# Altium schematic symbol library SCH-47569_A2_Library.SchLib: 96 symbols (part 3 of 3)
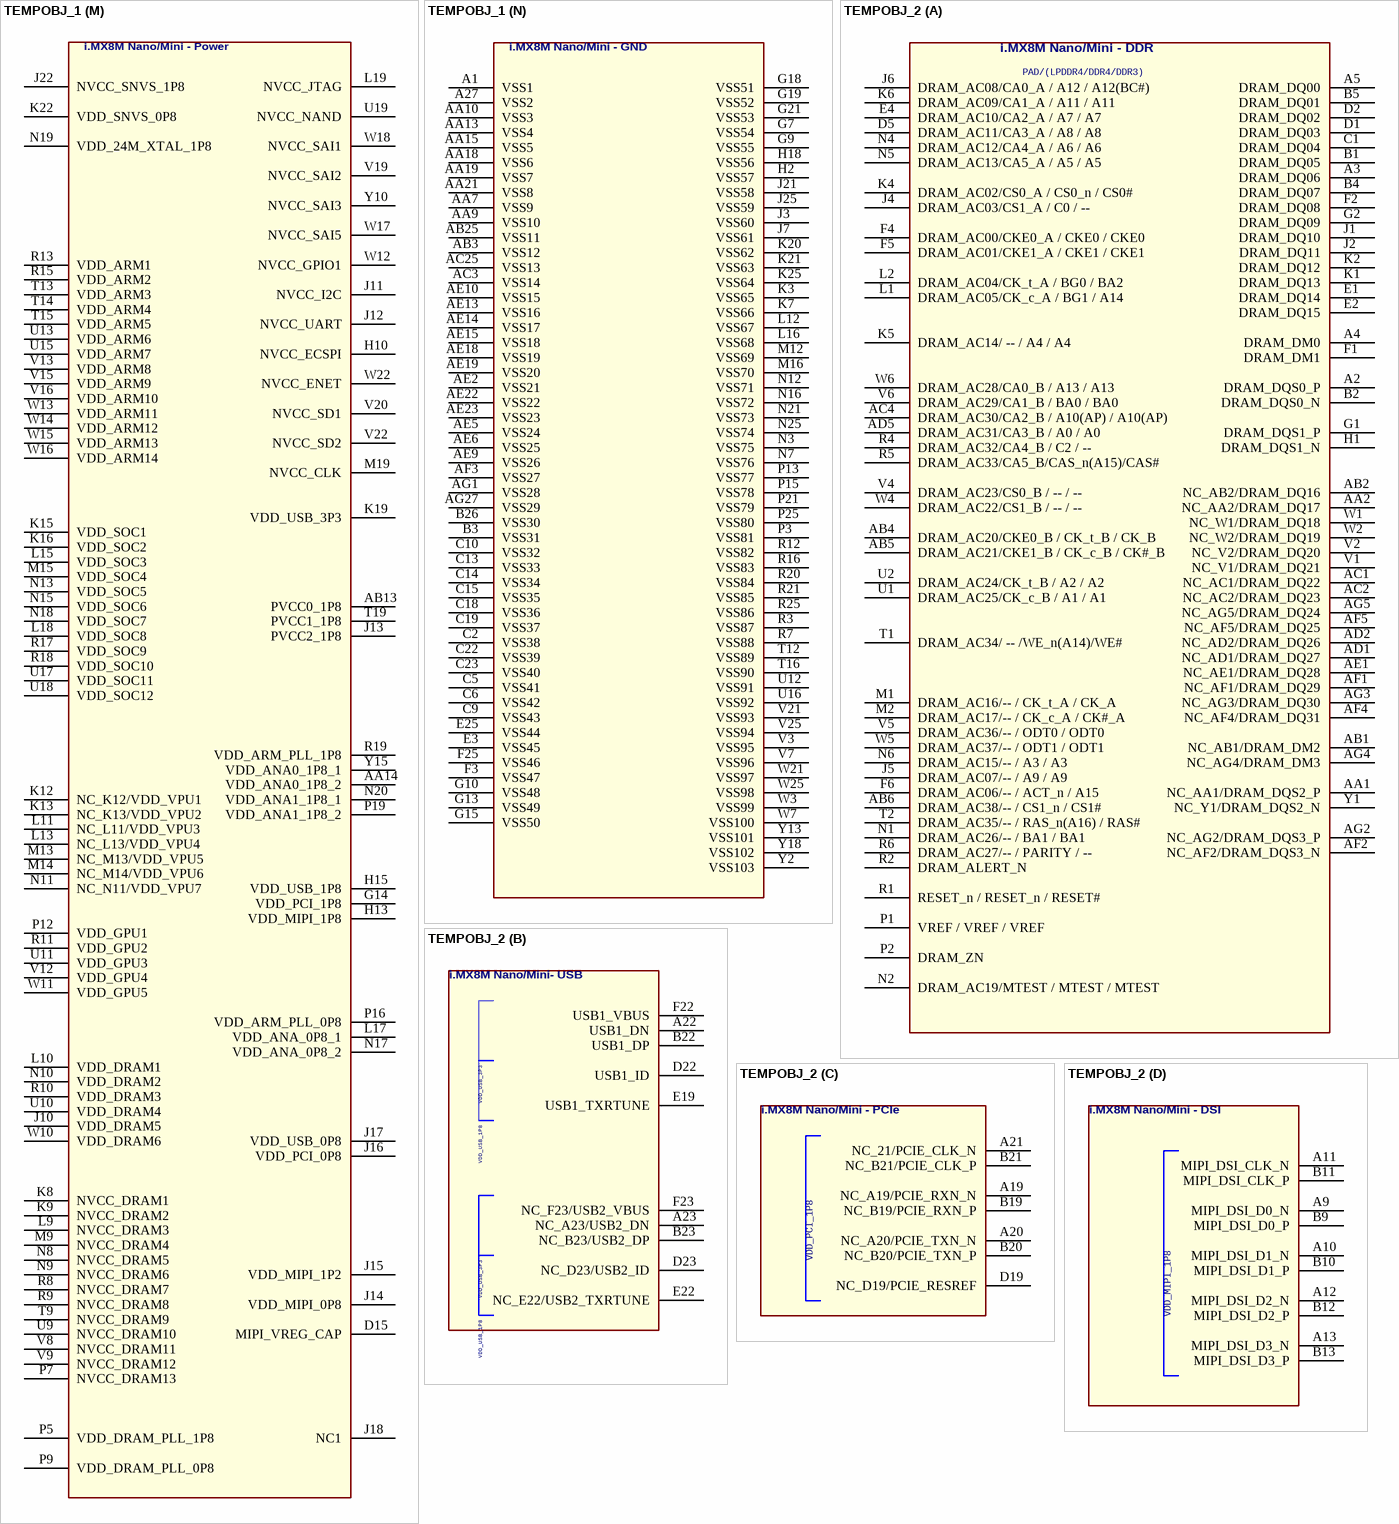
[diagram p32: symbols TEMPOBJ_1 to TEMPOBJ_2]

## TEMPOBJ_1
designator U?
SPLIT_INST: TRUE; CLASS: IC
footprint IMX845S-486P
part A pins: A2 DRAM_DQS0_P, A3 DRAM_DQ06, A4 DRAM_DM0, A5 DRAM_DQ00, AA1 NC_AA1/DRAM_DQS2_P, AA2 NC_AA2/DRAM_DQ17, AB1 NC_AB1/DRAM_DM2, AB2 NC_AB2/DRAM_DQ16, AB4 DRAM_AC20/CKE0_B / CK_t_B / CK_B, AB5 DRAM_AC21/CKE1_B / CK_c_B / CK#_B, AB6 DRAM_AC38/-- / CS1_n / CS1#, AC1 NC_AC1/DRAM_DQ22, AC2 NC_AC2/DRAM_DQ23, AC4 DRAM_AC30/CA2_B / A10(AP) / A10(AP), AD1 NC_AD1/DRAM_DQ27, AD2 NC_AD2/DRAM_DQ26, AD5 DRAM_AC31/CA3_B / A0 / A0, AE1 NC_AE1/DRAM_DQ28, AF1 NC_AF1/DRAM_DQ29, AF2 NC_AF2/DRAM_DQS3_N, AF4 NC_AF4/DRAM_DQ31, AF5 NC_AF5/DRAM_DQ25, AG2 NC_AG2/DRAM_DQS3_P, AG3 NC_AG3/DRAM_DQ30, AG4 NC_AG4/DRAM_DM3, AG5 NC_AG5/DRAM_DQ24, B1 DRAM_DQ05, B2 DRAM_DQS0_N, B4 DRAM_DQ07, B5 DRAM_DQ01, C1 DRAM_DQ04, D1 DRAM_DQ03, D2 DRAM_DQ02, D5 DRAM_AC11/CA3_A / A8 / A8, E1 DRAM_DQ14, E2 DRAM_DQ15, E4 DRAM_AC10/CA2_A / A7 / A7, F1 DRAM_DM1, F2 DRAM_DQ08, F4 DRAM_AC00/CKE0_A / CKE0 / CKE0, F5 DRAM_AC01/CKE1_A / CKE1 / CKE1, F6 DRAM_AC06/-- / ACT_n / A15, G1 DRAM_DQS1_P, G2 DRAM_DQ09, H1 DRAM_DQS1_N, J1 DRAM_DQ10, J2 DRAM_DQ11, J4 DRAM_AC03/CS1_A / C0 / --, J5 DRAM_AC07/-- / A9 / A9, J6 DRAM_AC08/CA0_A / A12 / A12(BC#), K1 DRAM_DQ13, K2 DRAM_DQ12, K4 DRAM_AC02/CS0_A / CS0_n / CS0#, K5 DRAM_AC14/ -- / A4 / A4, K6 DRAM_AC09/CA1_A / A11 / A11, L1 DRAM_AC05/CK_c_A / BG1 / A14, L2 DRAM_AC04/CK_t_A / BG0 / BA2, M1 DRAM_AC16/-- / CK_t_A / CK_A, M2 DRAM_AC17/-- / CK_c_A / CK#_A, N1 DRAM_AC26/-- / BA1 / BA1, N2 DRAM_AC19/MTEST / MTEST / MTEST, N4 DRAM_AC12/CA4_A / A6 / A6, N5 DRAM_AC13/CA5_A / A5 / A5, N6 DRAM_AC15/-- / A3 / A3, P1 VREF / VREF / VREF, P2 DRAM_ZN, R1 RESET_n / RESET_n / RESET#, R2 DRAM_ALERT_N, R4 DRAM_AC32/CA4_B / C2 / --, R5 DRAM_AC33/CA5_B/CAS_n(A15)/CAS#, R6 DRAM_AC27/-- / PARITY / --, T1 DRAM_AC34/ -- /WE_n(A14)/WE#, T2 DRAM_AC35/-- / RAS_n(A16) / RAS#, U1 DRAM_AC25/CK_c_B / A1 / A1, U2 DRAM_AC24/CK_t_B / A2 / A2, V1 NC_V1/DRAM_DQ21, V2 NC_V2/DRAM_DQ20, V4 DRAM_AC23/CS0_B / -- / --, V5 DRAM_AC36/-- / ODT0 / ODT0, V6 DRAM_AC29/CA1_B / BA0 / BA0, W1 NC_W1/DRAM_DQ18, W2 NC_W2/DRAM_DQ19, W4 DRAM_AC22/CS1_B / -- / --, W5 DRAM_AC37/-- / ODT1 / ODT1, W6 DRAM_AC28/CA0_B / A13 / A13, Y1 NC_Y1/DRAM_DQS2_N
part B pins: A22 USB1_DN, A23 NC_A23/USB2_DN, B22 USB1_DP, B23 NC_B23/USB2_DP, D22 USB1_ID, D23 NC_D23/USB2_ID, E19 USB1_TXRTUNE, E22 NC_E22/USB2_TXRTUNE, F22 USB1_VBUS, F23 NC_F23/USB2_VBUS (power)
part C pins: A19 NC_A19/PCIE_RXN_N, A20 NC_A20/PCIE_TXN_N, A21 NC_21/PCIE_CLK_N, B19 NC_B19/PCIE_RXN_P, B20 NC_B20/PCIE_TXN_P, B21 NC_B21/PCIE_CLK_P, D19 NC_D19/PCIE_RESREF
part D pins: A9 MIPI_DSI_D0_N, A10 MIPI_DSI_D1_N, A11 MIPI_DSI_CLK_N, A12 MIPI_DSI_D2_N, A13 MIPI_DSI_D3_N, B9 MIPI_DSI_D0_P, B10 MIPI_DSI_D1_P, B11 MIPI_DSI_CLK_P, B12 MIPI_DSI_D2_P, B13 MIPI_DSI_D3_P
part E pins: A14 MIPI_CSI_D0_N, A15 MIPI_CSI_D1_N, A16 MIPI_CSI_CLK_N, A17 MIPI_CSI_D2_N, A18 MIPI_CSI_D3_N, B14 MIPI_CSI_D0_P, B15 MIPI_CSI_D1_P, B16 MIPI_CSI_CLK_P, B17 MIPI_CSI_D2_P, B18 MIPI_CSI_D3_P
part F pins: D9 I2C2_SDA, D10 I2C2_SCL, D13 I2C4_SCL, D18 UART3_TXD, E9 I2C1_SCL, E10 I2C3_SCL, E13 I2C4_SDA, E14 UART1_RXD, E15 UART2_TXD, E18 UART3_RXD, F9 I2C1_SDA, F10 I2C3_SDA, F13 UART1_TXD, F15 UART2_RXD, F18 UART4_TXD, F19 UART4_RXD
part G pins: AB15 SAI5_RXFS, AB18 NC_AB18/SAI1_MCLK, AB19 NC_AB19/SAI1_TXFS, AB22 SAI2_RXC, AC6 SAI3_TXFS, AC13 SAI5_RXD3, AC14 SAI5_RXD1, AC15 SAI5_RXC, AC18 NC_AC18/SAI1_TXC, AC19 SAI2_RXFS, AC22 SAI2_TXD0, AC24 SAI2_RXD0, AD6 SAI3_MCLK, AD13 SAI5_RXD2, AD15 SAI5_MCLK, AD18 SAI5_RXD0, AD19 SAI2_MCLK, AD22 SAI2_TXC, AD23 SAI2_TXFS, AF6 SAI3_TXD, AF7 SAI3_RXD, AF8 SPDIF_EXT_CLK, AF9 SPDIF_TX, AF15 NC_AF15/SAI1_RXD1, AF16 NC_AF16/SAI1_RXC, AF17 NC_AF17/SAI1_RXD3, AF18 NC_AF18/SAI1_RXD5, AF19 NC_AF19/SAI1_RXD7, AF20 NC_AF20/SAI1_TXD1, AF21 NC_AF21/SAI1_TXD3, AF22 NC_AF22/SAI1_TXD5, AF23 NC_AF23/SAI1_TXD7, AG6 SAI3_TXC, AG7 SAI3_RXC, AG8 SAI3_RXFS, AG9 SPDIF_RX, AG15 NC_AG15/SAI1_RXD0, AG16 NC_AG16/SAI1_RXFS, AG17 NC_AG17/SAI1_RXD2, AG18 NC_AG18/SAI1_RXD4, AG19 NC_AG19/SAI1_RXD6, AG20 NC_AG20/SAI1_TXD0, AG21 NC_AG21/SAI1_TXD2, AG22 NC_AG22/SAI1_TXD4, AG23 NC_AG23/SAI1_TXD6
part H pins: K23 NAND_DATA02, K24 NAND_DATA01, K26 NAND_DATA06, K27 NAND_CLE, L26 NAND_DATA05, L27 NAND_CE3_B, M26 NAND_DATA04, M27 NAND_CE2_B, N22 NAND_ALE, N23 NAND_DATA03, N24 NAND_CE0_B, N26 NAND_DATA07, N27 NAND_RE_B, P23 NAND_DATA00, P26 NAND_READY_B, P27 NAND_CE1_B, R22 NAND_DQS, R26 NAND_WE_B, R27 NAND_WP_B
part I pins: AA26 SD2_CD_B, AA27 SD2_WP, AB23 SD2_DATA0, AB24 SD2_DATA1, AB26 SD2_RESET_B, R23 SD1_RESET_B, R24 SD1_STROBE, T26 SD1_DATA3, T27 SD1_DATA2, U26 SD1_DATA5, U27 SD1_DATA4, V23 SD2_DATA3, V24 SD2_DATA2, V26 SD1_CLK, V27 SD1_CMD, W23 SD2_CLK, W24 SD2_CMD, W26 SD1_DATA7, W27 SD1_DATA6, Y26 SD1_DATA1, Y27 SD1_DATA0
part J pins: AB27 ENET_MDIO, AC26 ENET_RD3, AC27 ENET_MDC, AD26 ENET_RD2, AD27 ENET_RD1, AE26 ENET_RXC, AE27 ENET_RD0, AF24 ENET_TX_CTL, AF25 ENET_TD3, AF26 ENET_TD1, AF27 ENET_RX_CTL, AG24 ENET_TXC, AG25 ENET_TD2, AG26 ENET_TD0
part K pins: A6 ECSPI2_SS0, A7 ECSPI1_MISO, A8 ECSPI2_MISO, AB9 GPIO1_IO15, AB10 GPIO1_IO12, AC9 GPIO1_IO14, AC10 GPIO1_IO11, AD9 GPIO1_IO13, AD10 GPIO1_IO10, AF10 GPIO1_IO09, AF11 GPIO1_IO07, AF12 GPIO1_IO05, AF13 GPIO1_IO03, AF14 GPIO1_IO01, AG10 GPIO1_IO08, AG11 GPIO1_IO06, AG12 GPIO1_IO04, AG13 GPIO1_IO02, AG14 GPIO1_IO00, B6 ECSPI1_SS0, B7 ECSPI1_MOSI, B8 ECSPI2_MOSI, D6 ECSPI1_SCLK, E6 ECSPI2_SCLK
part L pins: A24 PMIC_ON_REQ, A25 ONOFF, A26 RTC_XTALI, B24 POR_B, B25 RTC_XTALO, B27 24M_XTALI, C26 24M_XTALO, C27 BOOT_MODE2/JTAG_TRST_B, D26 BOOT_MODE3/TEST_MODE, D27 JTAG_MOD, E24 PMIC_STBY_REQ, E26 JTAG_TDO, E27 JTAG_TDI, F24 RTC_RESET_B, F26 JTAG_TCK, F27 JTAG_TMS, G26 BOOT_MODE0, G27 BOOT_MODE1, H26 CLKOUT1, H27 CLKIN1, J23 TSENSOR_TEST_OUT, J24 TSENSOR_RES_EXT, J26 CLKOUT2, J27 CLKIN2
part M pins: AA14 VDD_ANA0_1P8_2 (power), AB13 PVCC0_1P8 (power), D15 MIPI_VREG_CAP, G14 VDD_PCI_1P8 (power), H10 NVCC_ECSPI (power), H13 VDD_MIPI_1P8 (power), H15 VDD_USB_1P8 (power), J10 VDD_DRAM5 (power), J11 NVCC_I2C (power), J12 NVCC_UART (power), J13 PVCC2_1P8 (power), J14 VDD_MIPI_0P8 (power), J15 VDD_MIPI_1P2 (power), J16 VDD_PCI_0P8 (power), J17 VDD_USB_0P8 (power), J18 NC1 (power), J22 NVCC_SNVS_1P8 (power), K8 NVCC_DRAM1 (power), K9 NVCC_DRAM2 (power), K12 NC_K12/VDD_VPU1 (power), K13 NC_K13/VDD_VPU2 (power), K15 VDD_SOC1 (power), K16 VDD_SOC2 (power), K19 VDD_USB_3P3 (power), K22 VDD_SNVS_0P8 (power), L9 NVCC_DRAM3 (power), L10 VDD_DRAM1 (power), L11 NC_L11/VDD_VPU3 (power), L13 NC_L13/VDD_VPU4 (power), L15 VDD_SOC3 (power), L17 VDD_ANA_0P8_1 (power), L18 VDD_SOC8 (power), L19 NVCC_JTAG (power), M9 NVCC_DRAM4 (power), M13 NC_M13/VDD_VPU5 (power), M14 NC_M14/VDD_VPU6 (power), M15 VDD_SOC4 (power), M19 NVCC_CLK (power), N8 NVCC_DRAM5 (power), N9 NVCC_DRAM6 (power), N10 VDD_DRAM2 (power), N11 NC_N11/VDD_VPU7 (power), N13 VDD_SOC5 (power), N15 VDD_SOC6 (power), N17 VDD_ANA_0P8_2 (power), N18 VDD_SOC7 (power), N19 VDD_24M_XTAL_1P8 (power), N20 VDD_ANA1_1P8_1 (power), P5 VDD_DRAM_PLL_1P8 (power), P7 NVCC_DRAM13, P9 VDD_DRAM_PLL_0P8 (power), P12 VDD_GPU1 (power), P16 VDD_ARM_PLL_0P8 (power), P19 VDD_ANA1_1P8_2 (power), R8 NVCC_DRAM7 (power), R9 NVCC_DRAM8 (power), R10 VDD_DRAM3 (power), R11 VDD_GPU2 (power), R13 VDD_ARM1 (power), R15 VDD_ARM2 (power), R17 VDD_SOC9 (power), R18 VDD_SOC10 (power), R19 VDD_ARM_PLL_1P8 (power), T9 NVCC_DRAM9 (power), T13 VDD_ARM3 (power), T14 VDD_ARM4 (power), T15 VDD_ARM5 (power), T19 PVCC1_1P8 (power), U9 NVCC_DRAM10 (power), U10 VDD_DRAM4 (power), U11 VDD_GPU3 (power), U13 VDD_ARM6 (power), U15 VDD_ARM7 (power), U17 VDD_SOC11 (power), U18 VDD_SOC12 (power), U19 NVCC_NAND (power), V8 NVCC_DRAM11 (power), V9 NVCC_DRAM12 (power), V12 VDD_GPU4 (power), V13 VDD_ARM8 (power), V15 VDD_ARM9 (power), V16 VDD_ARM10 (power), V19 NVCC_SAI2 (power), V20 NVCC_SD1 (power), V22 NVCC_SD2 (power), W10 VDD_DRAM6 (power), W11 VDD_GPU5 (power), W12 NVCC_GPIO1 (power), W13 VDD_ARM11 (power), W14 VDD_ARM12 (power), W15 VDD_ARM13 (power), W16 VDD_ARM14 (power), W17 NVCC_SAI5 (power), W18 NVCC_SAI1 (power), W22 NVCC_ENET (power), Y10 NVCC_SAI3 (power), Y15 VDD_ANA0_1P8_1 (power)
part N pins: A1 VSS1 (power), A27 VSS2 (power), AA7 VSS9 (power), AA9 VSS10 (power), AA10 VSS3 (power), AA13 VSS4 (power), AA15 VSS5 (power), AA18 VSS6 (power), AA19 VSS7 (power), AA21 VSS8 (power), AB3 VSS12 (power), AB25 VSS11 (power), AC3 VSS14 (power), AC25 VSS13 (power), AE2 VSS21 (power), AE5 VSS24 (power), AE6 VSS25 (power), AE9 VSS26 (power), AE10 VSS15 (power), AE13 VSS16 (power), AE14 VSS17 (power), AE15 VSS18 (power), AE18 VSS19 (power), AE19 VSS20 (power), AE22 VSS22 (power), AE23 VSS23 (power), AF3 VSS27 (power), AG1 VSS28 (power), AG27 VSS29 (power), B3 VSS31 (power), B26 VSS30 (power), C2 VSS38 (power), C5 VSS41 (power), C6 VSS42 (power), C9 VSS43 (power), C10 VSS32 (power), C13 VSS33 (power), C14 VSS34 (power), C15 VSS35 (power), C18 VSS36 (power), C19 VSS37 (power), C22 VSS39 (power), C23 VSS40 (power), E3 VSS45 (power), E25 VSS44 (power), F3 VSS47 (power), F25 VSS46 (power), G7 VSS54 (power), G9 VSS55 (power), G10 VSS48 (power), G13 VSS49 (power), G15 VSS50 (power), G18 VSS51 (power), G19 VSS52 (power), G21 VSS53 (power), H2 VSS57 (power), H18 VSS56 (power), J3 VSS60 (power), J7 VSS61 (power), J21 VSS58 (power), J25 VSS59 (power), K3 VSS65 (power), K7 VSS66 (power), K20 VSS62 (power), K21 VSS63 (power), K25 VSS64 (power), L12 VSS67 (power), L16 VSS68 (power), M12 VSS69 (power), M16 VSS70 (power), N3 VSS75 (power), N7 VSS76 (power), N12 VSS71 (power), N16 VSS72 (power), N21 VSS73 (power), N25 VSS74 (power), P3 VSS81 (power), P13 VSS77 (power), P15 VSS78 (power), P21 VSS79 (power), P25 VSS80 (power), R3 VSS87 (power), R7 VSS88 (power), R12 VSS82 (power), R16 VSS83 (power), R20 VSS84 (power), R21 VSS85 (power), R25 VSS86 (power), T12 VSS89 (power), T16 VSS90 (power), U12 VSS91 (power), U16 VSS92 (power), V3 VSS95 (power), V7 VSS96 (power), V21 VSS93 (power), V25 VSS94 (power), W3 VSS99 (power), W7 VSS100 (power), W21 VSS97 (power), W25 VSS98 (power), Y2 VSS103 (power), Y13 VSS101 (power), Y18 VSS102 (power)
part A text: i.MX8M Nano/Mini - DDR; PAD/(LPDDR4/DDR4/DDR3)
part B text: i.MX8M Nano/Mini- USB
part C text: i.MX8M Nano/Mini - PCIe
part D text: i.MX8M Nano/Mini - DSI
part E text: i.MX8M Nano/Mini - CSI
part F text: i.MX8M Nano/Mini - UART&I2C
part G text: i.MX8M Nano/Mini - SAI
part H text: i.MX8M Nano/Mini - NAND
part I text: i.MX8M Nano/Mini - SDHC
part J text: i.MX8M Nano/Mini - eNET
part K text: i.MX8M Nano/Mini - SPI&GPIO
part L text: i.MX8M Nano/Mini - MISC; VDD_ANA1_1P8
part M text: i.MX8M Nano/Mini - Power
part N text: i.MX8M Nano/Mini - GND

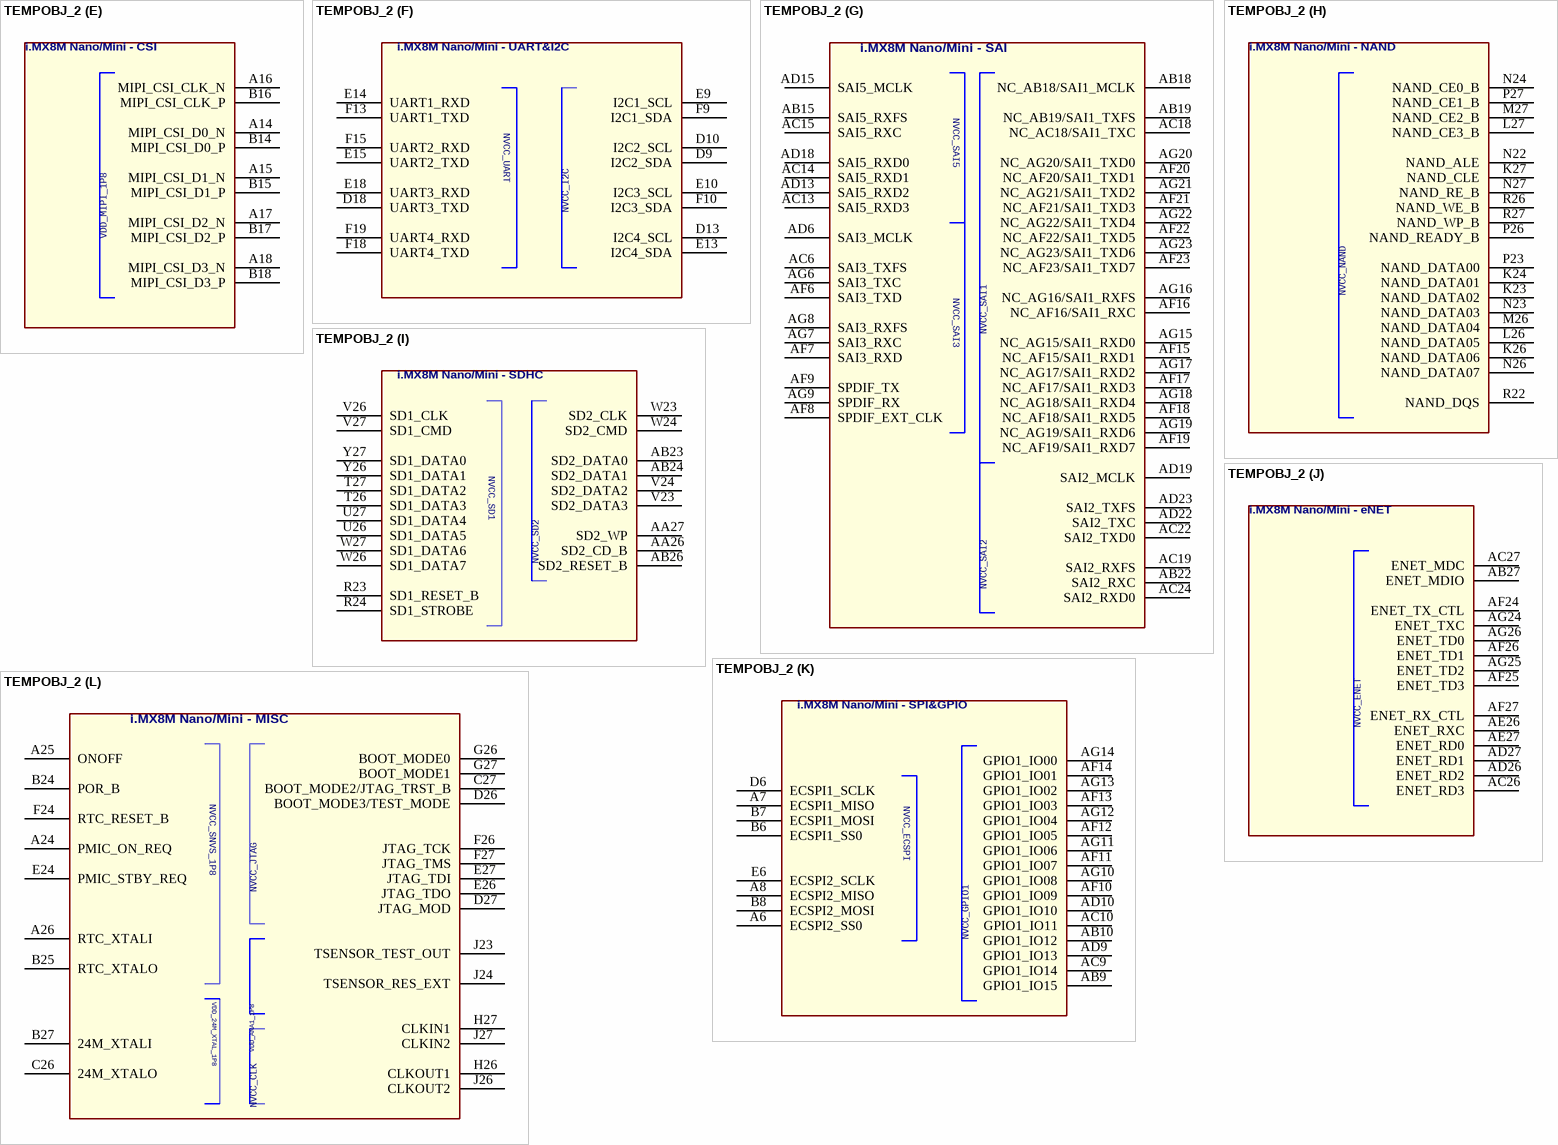
[diagram p26: symbol TEMPOBJ_2]

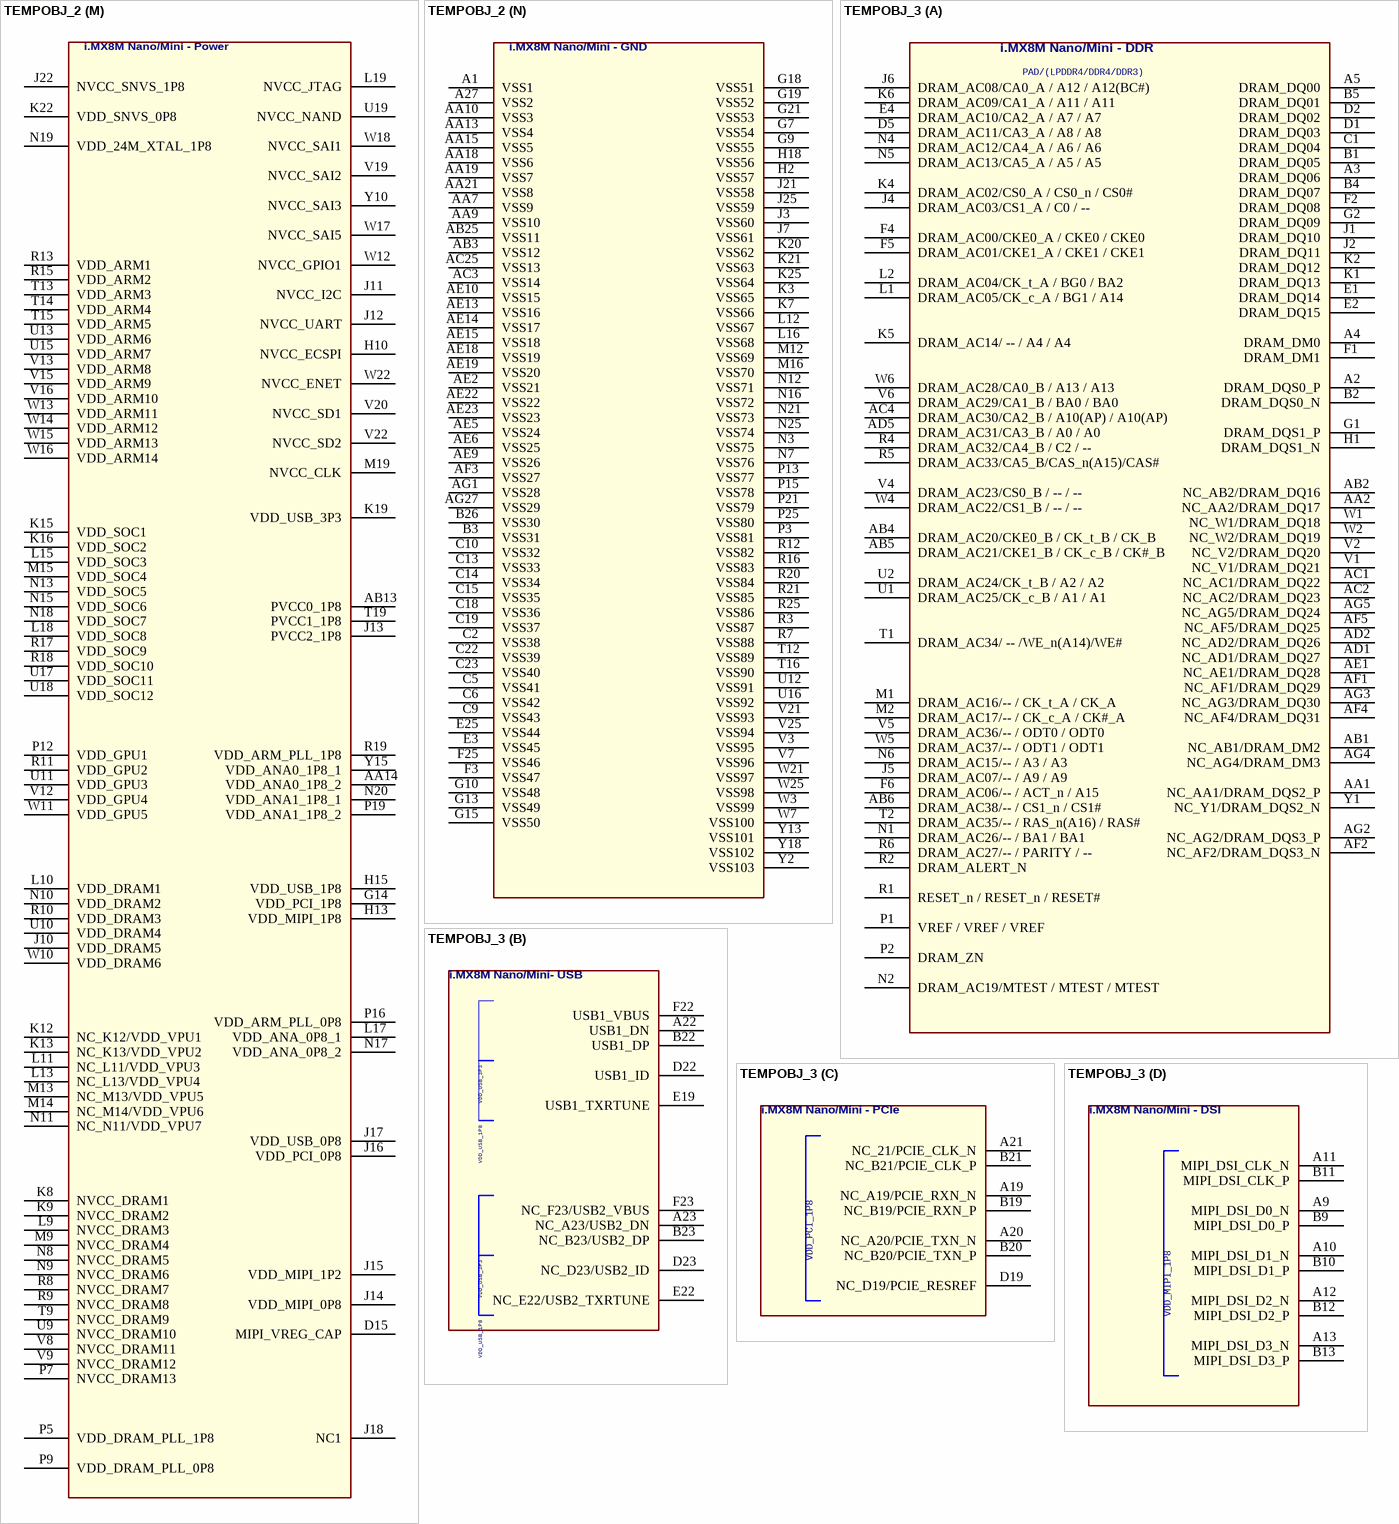
[diagram p27: symbols TEMPOBJ_2 to TEMPOBJ_3]

## TEMPOBJ_2
designator U?
SPLIT_INST: TRUE; CLASS: IC
footprint IMX845S-486P
part A pins: A2 DRAM_DQS0_P, A3 DRAM_DQ06, A4 DRAM_DM0, A5 DRAM_DQ00, AA1 NC_AA1/DRAM_DQS2_P, AA2 NC_AA2/DRAM_DQ17, AB1 NC_AB1/DRAM_DM2, AB2 NC_AB2/DRAM_DQ16, AB4 DRAM_AC20/CKE0_B / CK_t_B / CK_B, AB5 DRAM_AC21/CKE1_B / CK_c_B / CK#_B, AB6 DRAM_AC38/-- / CS1_n / CS1#, AC1 NC_AC1/DRAM_DQ22, AC2 NC_AC2/DRAM_DQ23, AC4 DRAM_AC30/CA2_B / A10(AP) / A10(AP), AD1 NC_AD1/DRAM_DQ27, AD2 NC_AD2/DRAM_DQ26, AD5 DRAM_AC31/CA3_B / A0 / A0, AE1 NC_AE1/DRAM_DQ28, AF1 NC_AF1/DRAM_DQ29, AF2 NC_AF2/DRAM_DQS3_N, AF4 NC_AF4/DRAM_DQ31, AF5 NC_AF5/DRAM_DQ25, AG2 NC_AG2/DRAM_DQS3_P, AG3 NC_AG3/DRAM_DQ30, AG4 NC_AG4/DRAM_DM3, AG5 NC_AG5/DRAM_DQ24, B1 DRAM_DQ05, B2 DRAM_DQS0_N, B4 DRAM_DQ07, B5 DRAM_DQ01, C1 DRAM_DQ04, D1 DRAM_DQ03, D2 DRAM_DQ02, D5 DRAM_AC11/CA3_A / A8 / A8, E1 DRAM_DQ14, E2 DRAM_DQ15, E4 DRAM_AC10/CA2_A / A7 / A7, F1 DRAM_DM1, F2 DRAM_DQ08, F4 DRAM_AC00/CKE0_A / CKE0 / CKE0, F5 DRAM_AC01/CKE1_A / CKE1 / CKE1, F6 DRAM_AC06/-- / ACT_n / A15, G1 DRAM_DQS1_P, G2 DRAM_DQ09, H1 DRAM_DQS1_N, J1 DRAM_DQ10, J2 DRAM_DQ11, J4 DRAM_AC03/CS1_A / C0 / --, J5 DRAM_AC07/-- / A9 / A9, J6 DRAM_AC08/CA0_A / A12 / A12(BC#), K1 DRAM_DQ13, K2 DRAM_DQ12, K4 DRAM_AC02/CS0_A / CS0_n / CS0#, K5 DRAM_AC14/ -- / A4 / A4, K6 DRAM_AC09/CA1_A / A11 / A11, L1 DRAM_AC05/CK_c_A / BG1 / A14, L2 DRAM_AC04/CK_t_A / BG0 / BA2, M1 DRAM_AC16/-- / CK_t_A / CK_A, M2 DRAM_AC17/-- / CK_c_A / CK#_A, N1 DRAM_AC26/-- / BA1 / BA1, N2 DRAM_AC19/MTEST / MTEST / MTEST, N4 DRAM_AC12/CA4_A / A6 / A6, N5 DRAM_AC13/CA5_A / A5 / A5, N6 DRAM_AC15/-- / A3 / A3, P1 VREF / VREF / VREF, P2 DRAM_ZN, R1 RESET_n / RESET_n / RESET#, R2 DRAM_ALERT_N, R4 DRAM_AC32/CA4_B / C2 / --, R5 DRAM_AC33/CA5_B/CAS_n(A15)/CAS#, R6 DRAM_AC27/-- / PARITY / --, T1 DRAM_AC34/ -- /WE_n(A14)/WE#, T2 DRAM_AC35/-- / RAS_n(A16) / RAS#, U1 DRAM_AC25/CK_c_B / A1 / A1, U2 DRAM_AC24/CK_t_B / A2 / A2, V1 NC_V1/DRAM_DQ21, V2 NC_V2/DRAM_DQ20, V4 DRAM_AC23/CS0_B / -- / --, V5 DRAM_AC36/-- / ODT0 / ODT0, V6 DRAM_AC29/CA1_B / BA0 / BA0, W1 NC_W1/DRAM_DQ18, W2 NC_W2/DRAM_DQ19, W4 DRAM_AC22/CS1_B / -- / --, W5 DRAM_AC37/-- / ODT1 / ODT1, W6 DRAM_AC28/CA0_B / A13 / A13, Y1 NC_Y1/DRAM_DQS2_N
part B pins: A22 USB1_DN, A23 NC_A23/USB2_DN, B22 USB1_DP, B23 NC_B23/USB2_DP, D22 USB1_ID, D23 NC_D23/USB2_ID, E19 USB1_TXRTUNE, E22 NC_E22/USB2_TXRTUNE, F22 USB1_VBUS, F23 NC_F23/USB2_VBUS (power)
part C pins: A19 NC_A19/PCIE_RXN_N, A20 NC_A20/PCIE_TXN_N, A21 NC_21/PCIE_CLK_N, B19 NC_B19/PCIE_RXN_P, B20 NC_B20/PCIE_TXN_P, B21 NC_B21/PCIE_CLK_P, D19 NC_D19/PCIE_RESREF
part D pins: A9 MIPI_DSI_D0_N, A10 MIPI_DSI_D1_N, A11 MIPI_DSI_CLK_N, A12 MIPI_DSI_D2_N, A13 MIPI_DSI_D3_N, B9 MIPI_DSI_D0_P, B10 MIPI_DSI_D1_P, B11 MIPI_DSI_CLK_P, B12 MIPI_DSI_D2_P, B13 MIPI_DSI_D3_P
part E pins: A14 MIPI_CSI_D0_N, A15 MIPI_CSI_D1_N, A16 MIPI_CSI_CLK_N, A17 MIPI_CSI_D2_N, A18 MIPI_CSI_D3_N, B14 MIPI_CSI_D0_P, B15 MIPI_CSI_D1_P, B16 MIPI_CSI_CLK_P, B17 MIPI_CSI_D2_P, B18 MIPI_CSI_D3_P
part F pins: D9 I2C2_SDA, D10 I2C2_SCL, D13 I2C4_SCL, D18 UART3_TXD, E9 I2C1_SCL, E10 I2C3_SCL, E13 I2C4_SDA, E14 UART1_RXD, E15 UART2_TXD, E18 UART3_RXD, F9 I2C1_SDA, F10 I2C3_SDA, F13 UART1_TXD, F15 UART2_RXD, F18 UART4_TXD, F19 UART4_RXD
part G pins: AB15 SAI5_RXFS, AB18 NC_AB18/SAI1_MCLK, AB19 NC_AB19/SAI1_TXFS, AB22 SAI2_RXC, AC6 SAI3_TXFS, AC13 SAI5_RXD3, AC14 SAI5_RXD1, AC15 SAI5_RXC, AC18 NC_AC18/SAI1_TXC, AC19 SAI2_RXFS, AC22 SAI2_TXD0, AC24 SAI2_RXD0, AD6 SAI3_MCLK, AD13 SAI5_RXD2, AD15 SAI5_MCLK, AD18 SAI5_RXD0, AD19 SAI2_MCLK, AD22 SAI2_TXC, AD23 SAI2_TXFS, AF6 SAI3_TXD, AF7 SAI3_RXD, AF8 SPDIF_EXT_CLK, AF9 SPDIF_TX, AF15 NC_AF15/SAI1_RXD1, AF16 NC_AF16/SAI1_RXC, AF17 NC_AF17/SAI1_RXD3, AF18 NC_AF18/SAI1_RXD5, AF19 NC_AF19/SAI1_RXD7, AF20 NC_AF20/SAI1_TXD1, AF21 NC_AF21/SAI1_TXD3, AF22 NC_AF22/SAI1_TXD5, AF23 NC_AF23/SAI1_TXD7, AG6 SAI3_TXC, AG7 SAI3_RXC, AG8 SAI3_RXFS, AG9 SPDIF_RX, AG15 NC_AG15/SAI1_RXD0, AG16 NC_AG16/SAI1_RXFS, AG17 NC_AG17/SAI1_RXD2, AG18 NC_AG18/SAI1_RXD4, AG19 NC_AG19/SAI1_RXD6, AG20 NC_AG20/SAI1_TXD0, AG21 NC_AG21/SAI1_TXD2, AG22 NC_AG22/SAI1_TXD4, AG23 NC_AG23/SAI1_TXD6
part H pins: K23 NAND_DATA02, K24 NAND_DATA01, K26 NAND_DATA06, K27 NAND_CLE, L26 NAND_DATA05, L27 NAND_CE3_B, M26 NAND_DATA04, M27 NAND_CE2_B, N22 NAND_ALE, N23 NAND_DATA03, N24 NAND_CE0_B, N26 NAND_DATA07, N27 NAND_RE_B, P23 NAND_DATA00, P26 NAND_READY_B, P27 NAND_CE1_B, R22 NAND_DQS, R26 NAND_WE_B, R27 NAND_WP_B
part I pins: AA26 SD2_CD_B, AA27 SD2_WP, AB23 SD2_DATA0, AB24 SD2_DATA1, AB26 SD2_RESET_B, R23 SD1_RESET_B, R24 SD1_STROBE, T26 SD1_DATA3, T27 SD1_DATA2, U26 SD1_DATA5, U27 SD1_DATA4, V23 SD2_DATA3, V24 SD2_DATA2, V26 SD1_CLK, V27 SD1_CMD, W23 SD2_CLK, W24 SD2_CMD, W26 SD1_DATA7, W27 SD1_DATA6, Y26 SD1_DATA1, Y27 SD1_DATA0
part J pins: AB27 ENET_MDIO, AC26 ENET_RD3, AC27 ENET_MDC, AD26 ENET_RD2, AD27 ENET_RD1, AE26 ENET_RXC, AE27 ENET_RD0, AF24 ENET_TX_CTL, AF25 ENET_TD3, AF26 ENET_TD1, AF27 ENET_RX_CTL, AG24 ENET_TXC, AG25 ENET_TD2, AG26 ENET_TD0
part K pins: A6 ECSPI2_SS0, A7 ECSPI1_MISO, A8 ECSPI2_MISO, AB9 GPIO1_IO15, AB10 GPIO1_IO12, AC9 GPIO1_IO14, AC10 GPIO1_IO11, AD9 GPIO1_IO13, AD10 GPIO1_IO10, AF10 GPIO1_IO09, AF11 GPIO1_IO07, AF12 GPIO1_IO05, AF13 GPIO1_IO03, AF14 GPIO1_IO01, AG10 GPIO1_IO08, AG11 GPIO1_IO06, AG12 GPIO1_IO04, AG13 GPIO1_IO02, AG14 GPIO1_IO00, B6 ECSPI1_SS0, B7 ECSPI1_MOSI, B8 ECSPI2_MOSI, D6 ECSPI1_SCLK, E6 ECSPI2_SCLK
part L pins: A24 PMIC_ON_REQ, A25 ONOFF, A26 RTC_XTALI, B24 POR_B, B25 RTC_XTALO, B27 24M_XTALI, C26 24M_XTALO, C27 BOOT_MODE2/JTAG_TRST_B, D26 BOOT_MODE3/TEST_MODE, D27 JTAG_MOD, E24 PMIC_STBY_REQ, E26 JTAG_TDO, E27 JTAG_TDI, F24 RTC_RESET_B, F26 JTAG_TCK, F27 JTAG_TMS, G26 BOOT_MODE0, G27 BOOT_MODE1, H26 CLKOUT1, H27 CLKIN1, J23 TSENSOR_TEST_OUT, J24 TSENSOR_RES_EXT, J26 CLKOUT2, J27 CLKIN2
part M pins: AA14 VDD_ANA0_1P8_2 (power), AB13 PVCC0_1P8 (power), D15 MIPI_VREG_CAP, G14 VDD_PCI_1P8 (power), H10 NVCC_ECSPI (power), H13 VDD_MIPI_1P8 (power), H15 VDD_USB_1P8 (power), J10 VDD_DRAM5 (power), J11 NVCC_I2C (power), J12 NVCC_UART (power), J13 PVCC2_1P8 (power), J14 VDD_MIPI_0P8 (power), J15 VDD_MIPI_1P2 (power), J16 VDD_PCI_0P8 (power), J17 VDD_USB_0P8 (power), J18 NC1 (power), J22 NVCC_SNVS_1P8 (power), K8 NVCC_DRAM1 (power), K9 NVCC_DRAM2 (power), K12 NC_K12/VDD_VPU1 (power), K13 NC_K13/VDD_VPU2 (power), K15 VDD_SOC1 (power), K16 VDD_SOC2 (power), K19 VDD_USB_3P3 (power), K22 VDD_SNVS_0P8 (power), L9 NVCC_DRAM3 (power), L10 VDD_DRAM1 (power), L11 NC_L11/VDD_VPU3 (power), L13 NC_L13/VDD_VPU4 (power), L15 VDD_SOC3 (power), L17 VDD_ANA_0P8_1 (power), L18 VDD_SOC8 (power), L19 NVCC_JTAG (power), M9 NVCC_DRAM4 (power), M13 NC_M13/VDD_VPU5 (power), M14 NC_M14/VDD_VPU6 (power), M15 VDD_SOC4 (power), M19 NVCC_CLK (power), N8 NVCC_DRAM5 (power), N9 NVCC_DRAM6 (power), N10 VDD_DRAM2 (power), N11 NC_N11/VDD_VPU7 (power), N13 VDD_SOC5 (power), N15 VDD_SOC6 (power), N17 VDD_ANA_0P8_2 (power), N18 VDD_SOC7 (power), N19 VDD_24M_XTAL_1P8 (power), N20 VDD_ANA1_1P8_1 (power), P5 VDD_DRAM_PLL_1P8 (power), P7 NVCC_DRAM13, P9 VDD_DRAM_PLL_0P8 (power), P12 VDD_GPU1 (power), P16 VDD_ARM_PLL_0P8 (power), P19 VDD_ANA1_1P8_2 (power), R8 NVCC_DRAM7 (power), R9 NVCC_DRAM8 (power), R10 VDD_DRAM3 (power), R11 VDD_GPU2 (power), R13 VDD_ARM1 (power), R15 VDD_ARM2 (power), R17 VDD_SOC9 (power), R18 VDD_SOC10 (power), R19 VDD_ARM_PLL_1P8 (power), T9 NVCC_DRAM9 (power), T13 VDD_ARM3 (power), T14 VDD_ARM4 (power), T15 VDD_ARM5 (power), T19 PVCC1_1P8 (power), U9 NVCC_DRAM10 (power), U10 VDD_DRAM4 (power), U11 VDD_GPU3 (power), U13 VDD_ARM6 (power), U15 VDD_ARM7 (power), U17 VDD_SOC11 (power), U18 VDD_SOC12 (power), U19 NVCC_NAND (power), V8 NVCC_DRAM11 (power), V9 NVCC_DRAM12 (power), V12 VDD_GPU4 (power), V13 VDD_ARM8 (power), V15 VDD_ARM9 (power), V16 VDD_ARM10 (power), V19 NVCC_SAI2 (power), V20 NVCC_SD1 (power), V22 NVCC_SD2 (power), W10 VDD_DRAM6 (power), W11 VDD_GPU5 (power), W12 NVCC_GPIO1 (power), W13 VDD_ARM11 (power), W14 VDD_ARM12 (power), W15 VDD_ARM13 (power), W16 VDD_ARM14 (power), W17 NVCC_SAI5 (power), W18 NVCC_SAI1 (power), W22 NVCC_ENET (power), Y10 NVCC_SAI3 (power), Y15 VDD_ANA0_1P8_1 (power)
part N pins: A1 VSS1 (power), A27 VSS2 (power), AA7 VSS9 (power), AA9 VSS10 (power), AA10 VSS3 (power), AA13 VSS4 (power), AA15 VSS5 (power), AA18 VSS6 (power), AA19 VSS7 (power), AA21 VSS8 (power), AB3 VSS12 (power), AB25 VSS11 (power), AC3 VSS14 (power), AC25 VSS13 (power), AE2 VSS21 (power), AE5 VSS24 (power), AE6 VSS25 (power), AE9 VSS26 (power), AE10 VSS15 (power), AE13 VSS16 (power), AE14 VSS17 (power), AE15 VSS18 (power), AE18 VSS19 (power), AE19 VSS20 (power), AE22 VSS22 (power), AE23 VSS23 (power), AF3 VSS27 (power), AG1 VSS28 (power), AG27 VSS29 (power), B3 VSS31 (power), B26 VSS30 (power), C2 VSS38 (power), C5 VSS41 (power), C6 VSS42 (power), C9 VSS43 (power), C10 VSS32 (power), C13 VSS33 (power), C14 VSS34 (power), C15 VSS35 (power), C18 VSS36 (power), C19 VSS37 (power), C22 VSS39 (power), C23 VSS40 (power), E3 VSS45 (power), E25 VSS44 (power), F3 VSS47 (power), F25 VSS46 (power), G7 VSS54 (power), G9 VSS55 (power), G10 VSS48 (power), G13 VSS49 (power), G15 VSS50 (power), G18 VSS51 (power), G19 VSS52 (power), G21 VSS53 (power), H2 VSS57 (power), H18 VSS56 (power), J3 VSS60 (power), J7 VSS61 (power), J21 VSS58 (power), J25 VSS59 (power), K3 VSS65 (power), K7 VSS66 (power), K20 VSS62 (power), K21 VSS63 (power), K25 VSS64 (power), L12 VSS67 (power), L16 VSS68 (power), M12 VSS69 (power), M16 VSS70 (power), N3 VSS75 (power), N7 VSS76 (power), N12 VSS71 (power), N16 VSS72 (power), N21 VSS73 (power), N25 VSS74 (power), P3 VSS81 (power), P13 VSS77 (power), P15 VSS78 (power), P21 VSS79 (power), P25 VSS80 (power), R3 VSS87 (power), R7 VSS88 (power), R12 VSS82 (power), R16 VSS83 (power), R20 VSS84 (power), R21 VSS85 (power), R25 VSS86 (power), T12 VSS89 (power), T16 VSS90 (power), U12 VSS91 (power), U16 VSS92 (power), V3 VSS95 (power), V7 VSS96 (power), V21 VSS93 (power), V25 VSS94 (power), W3 VSS99 (power), W7 VSS100 (power), W21 VSS97 (power), W25 VSS98 (power), Y2 VSS103 (power), Y13 VSS101 (power), Y18 VSS102 (power)
part A text: i.MX8M Nano/Mini - DDR; PAD/(LPDDR4/DDR4/DDR3)
part B text: i.MX8M Nano/Mini- USB
part C text: i.MX8M Nano/Mini - PCIe
part D text: i.MX8M Nano/Mini - DSI
part E text: i.MX8M Nano/Mini - CSI
part F text: i.MX8M Nano/Mini - UART&I2C
part G text: i.MX8M Nano/Mini - SAI
part H text: i.MX8M Nano/Mini - NAND
part I text: i.MX8M Nano/Mini - SDHC
part J text: i.MX8M Nano/Mini - eNET
part K text: i.MX8M Nano/Mini - SPI&GPIO
part L text: i.MX8M Nano/Mini - MISC; VDD_ANA1_1P8
part M text: i.MX8M Nano/Mini - Power
part N text: i.MX8M Nano/Mini - GND

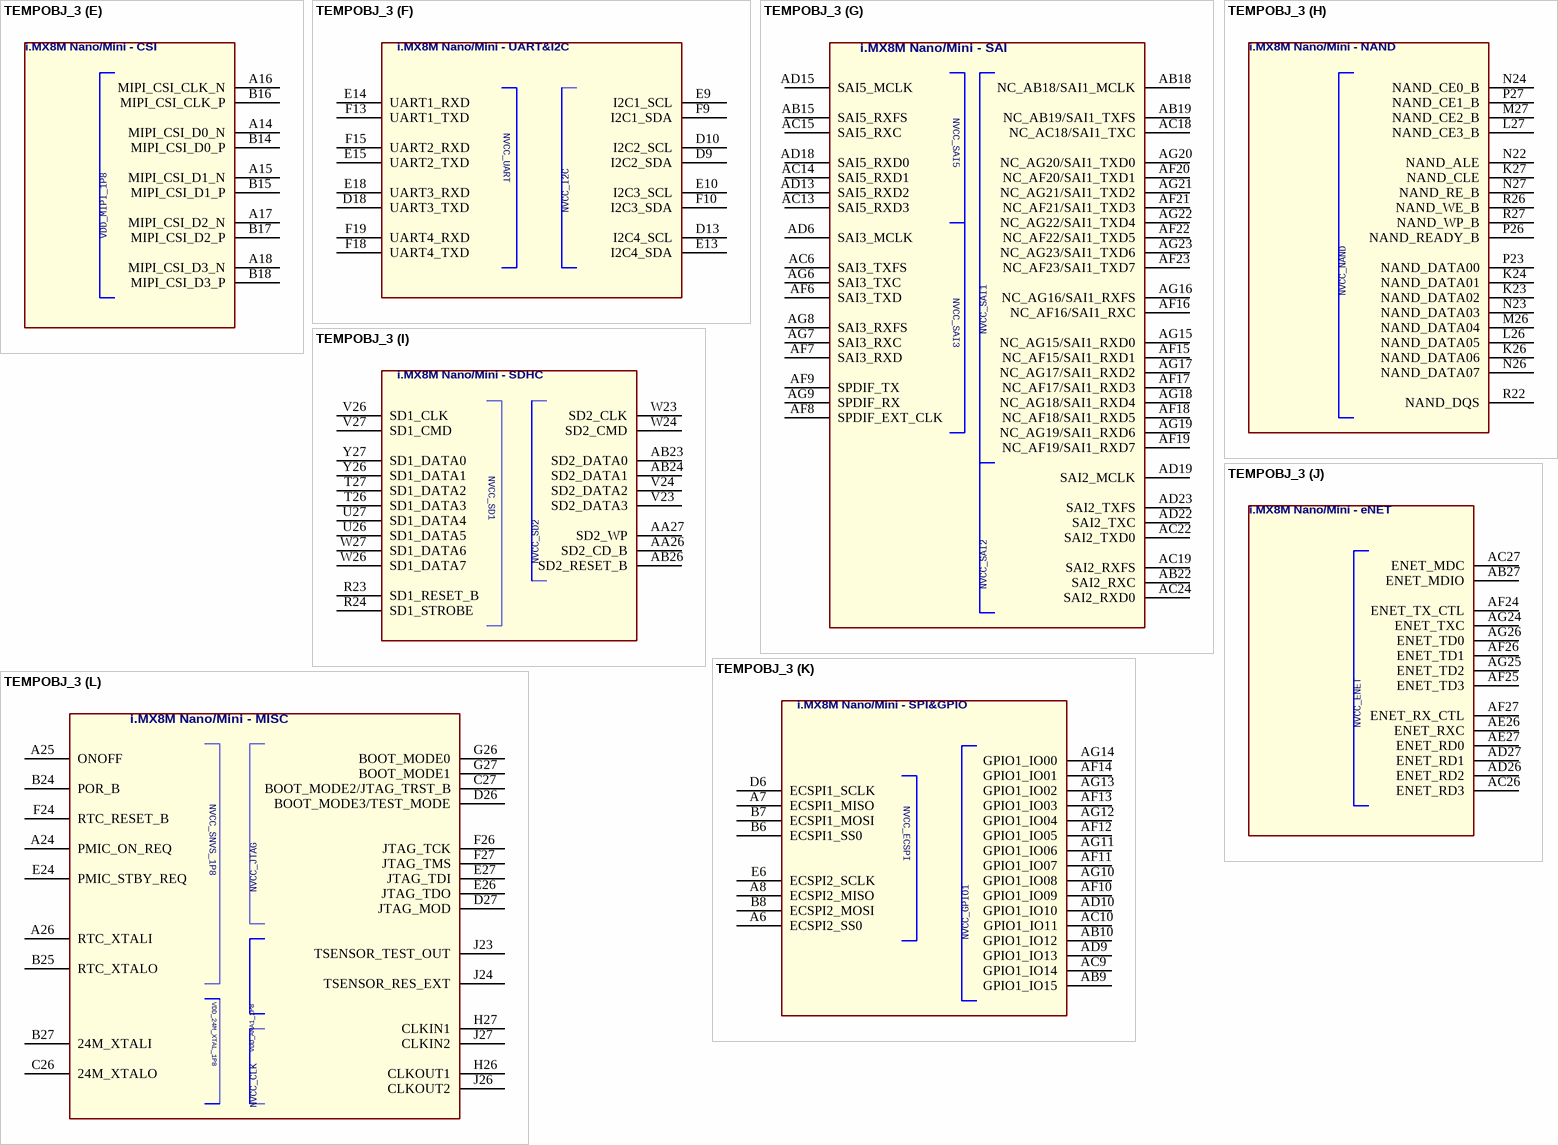
[diagram p28: symbol TEMPOBJ_3]

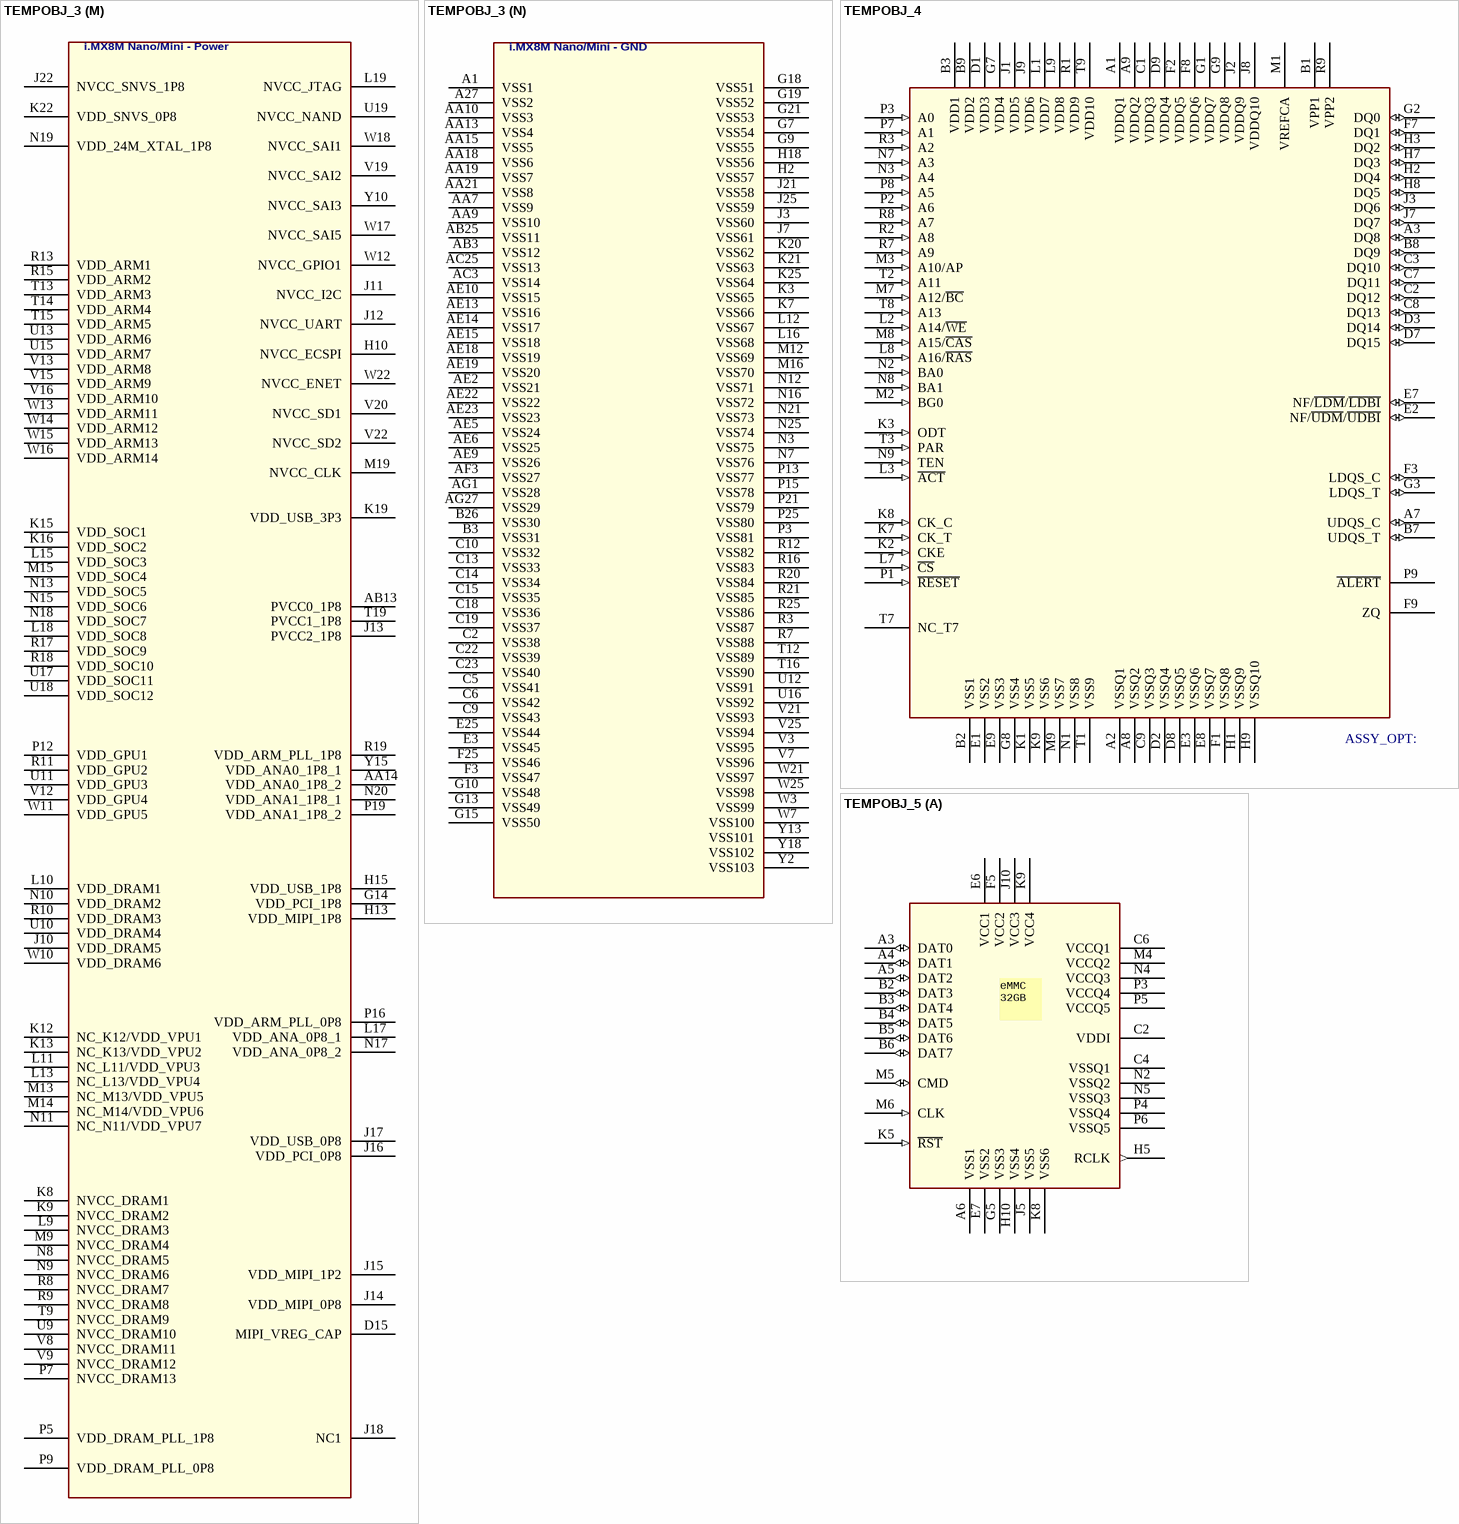
[diagram p29: symbols TEMPOBJ_3 to TEMPOBJ_5]

## TEMPOBJ_3
designator U?
CLASS: IC; SPLIT_INST: TRUE
footprint IMX845S-486P
part A pins: A2 DRAM_DQS0_P, A3 DRAM_DQ06, A4 DRAM_DM0, A5 DRAM_DQ00, AA1 NC_AA1/DRAM_DQS2_P, AA2 NC_AA2/DRAM_DQ17, AB1 NC_AB1/DRAM_DM2, AB2 NC_AB2/DRAM_DQ16, AB4 DRAM_AC20/CKE0_B / CK_t_B / CK_B, AB5 DRAM_AC21/CKE1_B / CK_c_B / CK#_B, AB6 DRAM_AC38/-- / CS1_n / CS1#, AC1 NC_AC1/DRAM_DQ22, AC2 NC_AC2/DRAM_DQ23, AC4 DRAM_AC30/CA2_B / A10(AP) / A10(AP), AD1 NC_AD1/DRAM_DQ27, AD2 NC_AD2/DRAM_DQ26, AD5 DRAM_AC31/CA3_B / A0 / A0, AE1 NC_AE1/DRAM_DQ28, AF1 NC_AF1/DRAM_DQ29, AF2 NC_AF2/DRAM_DQS3_N, AF4 NC_AF4/DRAM_DQ31, AF5 NC_AF5/DRAM_DQ25, AG2 NC_AG2/DRAM_DQS3_P, AG3 NC_AG3/DRAM_DQ30, AG4 NC_AG4/DRAM_DM3, AG5 NC_AG5/DRAM_DQ24, B1 DRAM_DQ05, B2 DRAM_DQS0_N, B4 DRAM_DQ07, B5 DRAM_DQ01, C1 DRAM_DQ04, D1 DRAM_DQ03, D2 DRAM_DQ02, D5 DRAM_AC11/CA3_A / A8 / A8, E1 DRAM_DQ14, E2 DRAM_DQ15, E4 DRAM_AC10/CA2_A / A7 / A7, F1 DRAM_DM1, F2 DRAM_DQ08, F4 DRAM_AC00/CKE0_A / CKE0 / CKE0, F5 DRAM_AC01/CKE1_A / CKE1 / CKE1, F6 DRAM_AC06/-- / ACT_n / A15, G1 DRAM_DQS1_P, G2 DRAM_DQ09, H1 DRAM_DQS1_N, J1 DRAM_DQ10, J2 DRAM_DQ11, J4 DRAM_AC03/CS1_A / C0 / --, J5 DRAM_AC07/-- / A9 / A9, J6 DRAM_AC08/CA0_A / A12 / A12(BC#), K1 DRAM_DQ13, K2 DRAM_DQ12, K4 DRAM_AC02/CS0_A / CS0_n / CS0#, K5 DRAM_AC14/ -- / A4 / A4, K6 DRAM_AC09/CA1_A / A11 / A11, L1 DRAM_AC05/CK_c_A / BG1 / A14, L2 DRAM_AC04/CK_t_A / BG0 / BA2, M1 DRAM_AC16/-- / CK_t_A / CK_A, M2 DRAM_AC17/-- / CK_c_A / CK#_A, N1 DRAM_AC26/-- / BA1 / BA1, N2 DRAM_AC19/MTEST / MTEST / MTEST, N4 DRAM_AC12/CA4_A / A6 / A6, N5 DRAM_AC13/CA5_A / A5 / A5, N6 DRAM_AC15/-- / A3 / A3, P1 VREF / VREF / VREF, P2 DRAM_ZN, R1 RESET_n / RESET_n / RESET#, R2 DRAM_ALERT_N, R4 DRAM_AC32/CA4_B / C2 / --, R5 DRAM_AC33/CA5_B/CAS_n(A15)/CAS#, R6 DRAM_AC27/-- / PARITY / --, T1 DRAM_AC34/ -- /WE_n(A14)/WE#, T2 DRAM_AC35/-- / RAS_n(A16) / RAS#, U1 DRAM_AC25/CK_c_B / A1 / A1, U2 DRAM_AC24/CK_t_B / A2 / A2, V1 NC_V1/DRAM_DQ21, V2 NC_V2/DRAM_DQ20, V4 DRAM_AC23/CS0_B / -- / --, V5 DRAM_AC36/-- / ODT0 / ODT0, V6 DRAM_AC29/CA1_B / BA0 / BA0, W1 NC_W1/DRAM_DQ18, W2 NC_W2/DRAM_DQ19, W4 DRAM_AC22/CS1_B / -- / --, W5 DRAM_AC37/-- / ODT1 / ODT1, W6 DRAM_AC28/CA0_B / A13 / A13, Y1 NC_Y1/DRAM_DQS2_N
part B pins: A22 USB1_DN, A23 NC_A23/USB2_DN, B22 USB1_DP, B23 NC_B23/USB2_DP, D22 USB1_ID, D23 NC_D23/USB2_ID, E19 USB1_TXRTUNE, E22 NC_E22/USB2_TXRTUNE, F22 USB1_VBUS, F23 NC_F23/USB2_VBUS (power)
part C pins: A19 NC_A19/PCIE_RXN_N, A20 NC_A20/PCIE_TXN_N, A21 NC_21/PCIE_CLK_N, B19 NC_B19/PCIE_RXN_P, B20 NC_B20/PCIE_TXN_P, B21 NC_B21/PCIE_CLK_P, D19 NC_D19/PCIE_RESREF
part D pins: A9 MIPI_DSI_D0_N, A10 MIPI_DSI_D1_N, A11 MIPI_DSI_CLK_N, A12 MIPI_DSI_D2_N, A13 MIPI_DSI_D3_N, B9 MIPI_DSI_D0_P, B10 MIPI_DSI_D1_P, B11 MIPI_DSI_CLK_P, B12 MIPI_DSI_D2_P, B13 MIPI_DSI_D3_P
part E pins: A14 MIPI_CSI_D0_N, A15 MIPI_CSI_D1_N, A16 MIPI_CSI_CLK_N, A17 MIPI_CSI_D2_N, A18 MIPI_CSI_D3_N, B14 MIPI_CSI_D0_P, B15 MIPI_CSI_D1_P, B16 MIPI_CSI_CLK_P, B17 MIPI_CSI_D2_P, B18 MIPI_CSI_D3_P
part F pins: D9 I2C2_SDA, D10 I2C2_SCL, D13 I2C4_SCL, D18 UART3_TXD, E9 I2C1_SCL, E10 I2C3_SCL, E13 I2C4_SDA, E14 UART1_RXD, E15 UART2_TXD, E18 UART3_RXD, F9 I2C1_SDA, F10 I2C3_SDA, F13 UART1_TXD, F15 UART2_RXD, F18 UART4_TXD, F19 UART4_RXD
part G pins: AB15 SAI5_RXFS, AB18 NC_AB18/SAI1_MCLK, AB19 NC_AB19/SAI1_TXFS, AB22 SAI2_RXC, AC6 SAI3_TXFS, AC13 SAI5_RXD3, AC14 SAI5_RXD1, AC15 SAI5_RXC, AC18 NC_AC18/SAI1_TXC, AC19 SAI2_RXFS, AC22 SAI2_TXD0, AC24 SAI2_RXD0, AD6 SAI3_MCLK, AD13 SAI5_RXD2, AD15 SAI5_MCLK, AD18 SAI5_RXD0, AD19 SAI2_MCLK, AD22 SAI2_TXC, AD23 SAI2_TXFS, AF6 SAI3_TXD, AF7 SAI3_RXD, AF8 SPDIF_EXT_CLK, AF9 SPDIF_TX, AF15 NC_AF15/SAI1_RXD1, AF16 NC_AF16/SAI1_RXC, AF17 NC_AF17/SAI1_RXD3, AF18 NC_AF18/SAI1_RXD5, AF19 NC_AF19/SAI1_RXD7, AF20 NC_AF20/SAI1_TXD1, AF21 NC_AF21/SAI1_TXD3, AF22 NC_AF22/SAI1_TXD5, AF23 NC_AF23/SAI1_TXD7, AG6 SAI3_TXC, AG7 SAI3_RXC, AG8 SAI3_RXFS, AG9 SPDIF_RX, AG15 NC_AG15/SAI1_RXD0, AG16 NC_AG16/SAI1_RXFS, AG17 NC_AG17/SAI1_RXD2, AG18 NC_AG18/SAI1_RXD4, AG19 NC_AG19/SAI1_RXD6, AG20 NC_AG20/SAI1_TXD0, AG21 NC_AG21/SAI1_TXD2, AG22 NC_AG22/SAI1_TXD4, AG23 NC_AG23/SAI1_TXD6
part H pins: K23 NAND_DATA02, K24 NAND_DATA01, K26 NAND_DATA06, K27 NAND_CLE, L26 NAND_DATA05, L27 NAND_CE3_B, M26 NAND_DATA04, M27 NAND_CE2_B, N22 NAND_ALE, N23 NAND_DATA03, N24 NAND_CE0_B, N26 NAND_DATA07, N27 NAND_RE_B, P23 NAND_DATA00, P26 NAND_READY_B, P27 NAND_CE1_B, R22 NAND_DQS, R26 NAND_WE_B, R27 NAND_WP_B
part I pins: AA26 SD2_CD_B, AA27 SD2_WP, AB23 SD2_DATA0, AB24 SD2_DATA1, AB26 SD2_RESET_B, R23 SD1_RESET_B, R24 SD1_STROBE, T26 SD1_DATA3, T27 SD1_DATA2, U26 SD1_DATA5, U27 SD1_DATA4, V23 SD2_DATA3, V24 SD2_DATA2, V26 SD1_CLK, V27 SD1_CMD, W23 SD2_CLK, W24 SD2_CMD, W26 SD1_DATA7, W27 SD1_DATA6, Y26 SD1_DATA1, Y27 SD1_DATA0
part J pins: AB27 ENET_MDIO, AC26 ENET_RD3, AC27 ENET_MDC, AD26 ENET_RD2, AD27 ENET_RD1, AE26 ENET_RXC, AE27 ENET_RD0, AF24 ENET_TX_CTL, AF25 ENET_TD3, AF26 ENET_TD1, AF27 ENET_RX_CTL, AG24 ENET_TXC, AG25 ENET_TD2, AG26 ENET_TD0
part K pins: A6 ECSPI2_SS0, A7 ECSPI1_MISO, A8 ECSPI2_MISO, AB9 GPIO1_IO15, AB10 GPIO1_IO12, AC9 GPIO1_IO14, AC10 GPIO1_IO11, AD9 GPIO1_IO13, AD10 GPIO1_IO10, AF10 GPIO1_IO09, AF11 GPIO1_IO07, AF12 GPIO1_IO05, AF13 GPIO1_IO03, AF14 GPIO1_IO01, AG10 GPIO1_IO08, AG11 GPIO1_IO06, AG12 GPIO1_IO04, AG13 GPIO1_IO02, AG14 GPIO1_IO00, B6 ECSPI1_SS0, B7 ECSPI1_MOSI, B8 ECSPI2_MOSI, D6 ECSPI1_SCLK, E6 ECSPI2_SCLK
part L pins: A24 PMIC_ON_REQ, A25 ONOFF, A26 RTC_XTALI, B24 POR_B, B25 RTC_XTALO, B27 24M_XTALI, C26 24M_XTALO, C27 BOOT_MODE2/JTAG_TRST_B, D26 BOOT_MODE3/TEST_MODE, D27 JTAG_MOD, E24 PMIC_STBY_REQ, E26 JTAG_TDO, E27 JTAG_TDI, F24 RTC_RESET_B, F26 JTAG_TCK, F27 JTAG_TMS, G26 BOOT_MODE0, G27 BOOT_MODE1, H26 CLKOUT1, H27 CLKIN1, J23 TSENSOR_TEST_OUT, J24 TSENSOR_RES_EXT, J26 CLKOUT2, J27 CLKIN2
part M pins: AA14 VDD_ANA0_1P8_2 (power), AB13 PVCC0_1P8 (power), D15 MIPI_VREG_CAP, G14 VDD_PCI_1P8 (power), H10 NVCC_ECSPI (power), H13 VDD_MIPI_1P8 (power), H15 VDD_USB_1P8 (power), J10 VDD_DRAM5 (power), J11 NVCC_I2C (power), J12 NVCC_UART (power), J13 PVCC2_1P8 (power), J14 VDD_MIPI_0P8 (power), J15 VDD_MIPI_1P2 (power), J16 VDD_PCI_0P8 (power), J17 VDD_USB_0P8 (power), J18 NC1 (power), J22 NVCC_SNVS_1P8 (power), K8 NVCC_DRAM1 (power), K9 NVCC_DRAM2 (power), K12 NC_K12/VDD_VPU1 (power), K13 NC_K13/VDD_VPU2 (power), K15 VDD_SOC1 (power), K16 VDD_SOC2 (power), K19 VDD_USB_3P3 (power), K22 VDD_SNVS_0P8 (power), L9 NVCC_DRAM3 (power), L10 VDD_DRAM1 (power), L11 NC_L11/VDD_VPU3 (power), L13 NC_L13/VDD_VPU4 (power), L15 VDD_SOC3 (power), L17 VDD_ANA_0P8_1 (power), L18 VDD_SOC8 (power), L19 NVCC_JTAG (power), M9 NVCC_DRAM4 (power), M13 NC_M13/VDD_VPU5 (power), M14 NC_M14/VDD_VPU6 (power), M15 VDD_SOC4 (power), M19 NVCC_CLK (power), N8 NVCC_DRAM5 (power), N9 NVCC_DRAM6 (power), N10 VDD_DRAM2 (power), N11 NC_N11/VDD_VPU7 (power), N13 VDD_SOC5 (power), N15 VDD_SOC6 (power), N17 VDD_ANA_0P8_2 (power), N18 VDD_SOC7 (power), N19 VDD_24M_XTAL_1P8 (power), N20 VDD_ANA1_1P8_1 (power), P5 VDD_DRAM_PLL_1P8 (power), P7 NVCC_DRAM13, P9 VDD_DRAM_PLL_0P8 (power), P12 VDD_GPU1 (power), P16 VDD_ARM_PLL_0P8 (power), P19 VDD_ANA1_1P8_2 (power), R8 NVCC_DRAM7 (power), R9 NVCC_DRAM8 (power), R10 VDD_DRAM3 (power), R11 VDD_GPU2 (power), R13 VDD_ARM1 (power), R15 VDD_ARM2 (power), R17 VDD_SOC9 (power), R18 VDD_SOC10 (power), R19 VDD_ARM_PLL_1P8 (power), T9 NVCC_DRAM9 (power), T13 VDD_ARM3 (power), T14 VDD_ARM4 (power), T15 VDD_ARM5 (power), T19 PVCC1_1P8 (power), U9 NVCC_DRAM10 (power), U10 VDD_DRAM4 (power), U11 VDD_GPU3 (power), U13 VDD_ARM6 (power), U15 VDD_ARM7 (power), U17 VDD_SOC11 (power), U18 VDD_SOC12 (power), U19 NVCC_NAND (power), V8 NVCC_DRAM11 (power), V9 NVCC_DRAM12 (power), V12 VDD_GPU4 (power), V13 VDD_ARM8 (power), V15 VDD_ARM9 (power), V16 VDD_ARM10 (power), V19 NVCC_SAI2 (power), V20 NVCC_SD1 (power), V22 NVCC_SD2 (power), W10 VDD_DRAM6 (power), W11 VDD_GPU5 (power), W12 NVCC_GPIO1 (power), W13 VDD_ARM11 (power), W14 VDD_ARM12 (power), W15 VDD_ARM13 (power), W16 VDD_ARM14 (power), W17 NVCC_SAI5 (power), W18 NVCC_SAI1 (power), W22 NVCC_ENET (power), Y10 NVCC_SAI3 (power), Y15 VDD_ANA0_1P8_1 (power)
part N pins: A1 VSS1 (power), A27 VSS2 (power), AA7 VSS9 (power), AA9 VSS10 (power), AA10 VSS3 (power), AA13 VSS4 (power), AA15 VSS5 (power), AA18 VSS6 (power), AA19 VSS7 (power), AA21 VSS8 (power), AB3 VSS12 (power), AB25 VSS11 (power), AC3 VSS14 (power), AC25 VSS13 (power), AE2 VSS21 (power), AE5 VSS24 (power), AE6 VSS25 (power), AE9 VSS26 (power), AE10 VSS15 (power), AE13 VSS16 (power), AE14 VSS17 (power), AE15 VSS18 (power), AE18 VSS19 (power), AE19 VSS20 (power), AE22 VSS22 (power), AE23 VSS23 (power), AF3 VSS27 (power), AG1 VSS28 (power), AG27 VSS29 (power), B3 VSS31 (power), B26 VSS30 (power), C2 VSS38 (power), C5 VSS41 (power), C6 VSS42 (power), C9 VSS43 (power), C10 VSS32 (power), C13 VSS33 (power), C14 VSS34 (power), C15 VSS35 (power), C18 VSS36 (power), C19 VSS37 (power), C22 VSS39 (power), C23 VSS40 (power), E3 VSS45 (power), E25 VSS44 (power), F3 VSS47 (power), F25 VSS46 (power), G7 VSS54 (power), G9 VSS55 (power), G10 VSS48 (power), G13 VSS49 (power), G15 VSS50 (power), G18 VSS51 (power), G19 VSS52 (power), G21 VSS53 (power), H2 VSS57 (power), H18 VSS56 (power), J3 VSS60 (power), J7 VSS61 (power), J21 VSS58 (power), J25 VSS59 (power), K3 VSS65 (power), K7 VSS66 (power), K20 VSS62 (power), K21 VSS63 (power), K25 VSS64 (power), L12 VSS67 (power), L16 VSS68 (power), M12 VSS69 (power), M16 VSS70 (power), N3 VSS75 (power), N7 VSS76 (power), N12 VSS71 (power), N16 VSS72 (power), N21 VSS73 (power), N25 VSS74 (power), P3 VSS81 (power), P13 VSS77 (power), P15 VSS78 (power), P21 VSS79 (power), P25 VSS80 (power), R3 VSS87 (power), R7 VSS88 (power), R12 VSS82 (power), R16 VSS83 (power), R20 VSS84 (power), R21 VSS85 (power), R25 VSS86 (power), T12 VSS89 (power), T16 VSS90 (power), U12 VSS91 (power), U16 VSS92 (power), V3 VSS95 (power), V7 VSS96 (power), V21 VSS93 (power), V25 VSS94 (power), W3 VSS99 (power), W7 VSS100 (power), W21 VSS97 (power), W25 VSS98 (power), Y2 VSS103 (power), Y13 VSS101 (power), Y18 VSS102 (power)
part A text: i.MX8M Nano/Mini - DDR; PAD/(LPDDR4/DDR4/DDR3)
part B text: i.MX8M Nano/Mini- USB
part C text: i.MX8M Nano/Mini - PCIe
part D text: i.MX8M Nano/Mini - DSI
part E text: i.MX8M Nano/Mini - CSI
part F text: i.MX8M Nano/Mini - UART&I2C
part G text: i.MX8M Nano/Mini - SAI
part H text: i.MX8M Nano/Mini - NAND
part I text: i.MX8M Nano/Mini - SDHC
part J text: i.MX8M Nano/Mini - eNET
part K text: i.MX8M Nano/Mini - SPI&GPIO
part L text: i.MX8M Nano/Mini - MISC; VDD_ANA1_1P8
part M text: i.MX8M Nano/Mini - Power
part N text: i.MX8M Nano/Mini - GND

## TEMPOBJ_4
designator U?
CLASS: IC
pins: A1 VDDQ1 (power), A2 VSSQ1 (power), A3 DQ8 (io), A7 UDQS_C (io), A8 VSSQ2 (power), A9 VDDQ2 (power), B1 VPP1 (power), B2 VSS1 (power), B3 VDD1 (power), B7 UDQS_T (io), B8 DQ9 (io), B9 VDD2 (power), C1 VDDQ3 (power), C2 DQ12 (io), C3 DQ10 (io), C7 DQ11 (io), C8 DQ13 (io), C9 VSSQ3 (power), D1 VDD3 (power), D2 VSSQ4 (power), D3 DQ14 (io), D7 DQ15 (io), D8 VSSQ5 (power), D9 VDDQ4 (power), E1 VSS2 (power), E2 NF/~{UDM}/~{UDBI} (io), E3 VSSQ6 (power), E7 NF/~{LDM}/~{LDBI} (io), E8 VSSQ7 (power), E9 VSS3 (power), F1 VSSQ8 (power), F2 VDDQ5 (power), F3 LDQS_C (io), F7 DQ1 (io), F8 VDDQ6 (power), F9 ZQ, G1 VDDQ7 (power), G2 DQ0 (io), G3 LDQS_T (io), G7 VDD4 (power), G8 VSS4 (power), G9 VDDQ8 (power), H1 VSSQ9 (power), H2 DQ4 (io), H3 DQ2 (io), H7 DQ3 (io), H8 DQ5 (io), H9 VSSQ10 (power), J1 VDD5 (power), J2 VDDQ9 (power), J3 DQ6 (io), J7 DQ7 (io), J8 VDDQ10 (power), J9 VDD6 (power), K1 VSS5 (power), K2 CKE (in), K3 ODT (in), K7 CK_T (in), K8 CK_C (in), K9 VSS6 (power), L1 VDD7 (power), L2 A14/~{WE} (in), L3 ~{ACT} (in), L7 ~{CS} (in), L8 A16/~{RAS} (in), L9 VDD8 (power), M1 VREFCA (power), M2 BG0 (in), M3 A10/AP (in), M7 A12/~{BC} (in), M8 A15/~{CAS} (in), M9 VSS7 (power), N1 VSS8 (power), N2 BA0 (in), N3 A4 (in), N7 A3 (in), N8 BA1 (in), N9 TEN (in), P1 ~{RESET} (in), P2 A6 (in), P3 A0 (in), P7 A1 (in), P8 A5 (in), P9 ~{ALERT}, R1 VDD9 (power), R2 A8 (in), R3 A2 (in), R7 A9 (in), R8 A7 (in), R9 VPP2 (power), T1 VSS9 (power), T2 A11 (in), T3 PAR (in), T7 NC_T7, T8 A13 (in), T9 VDD10 (power)

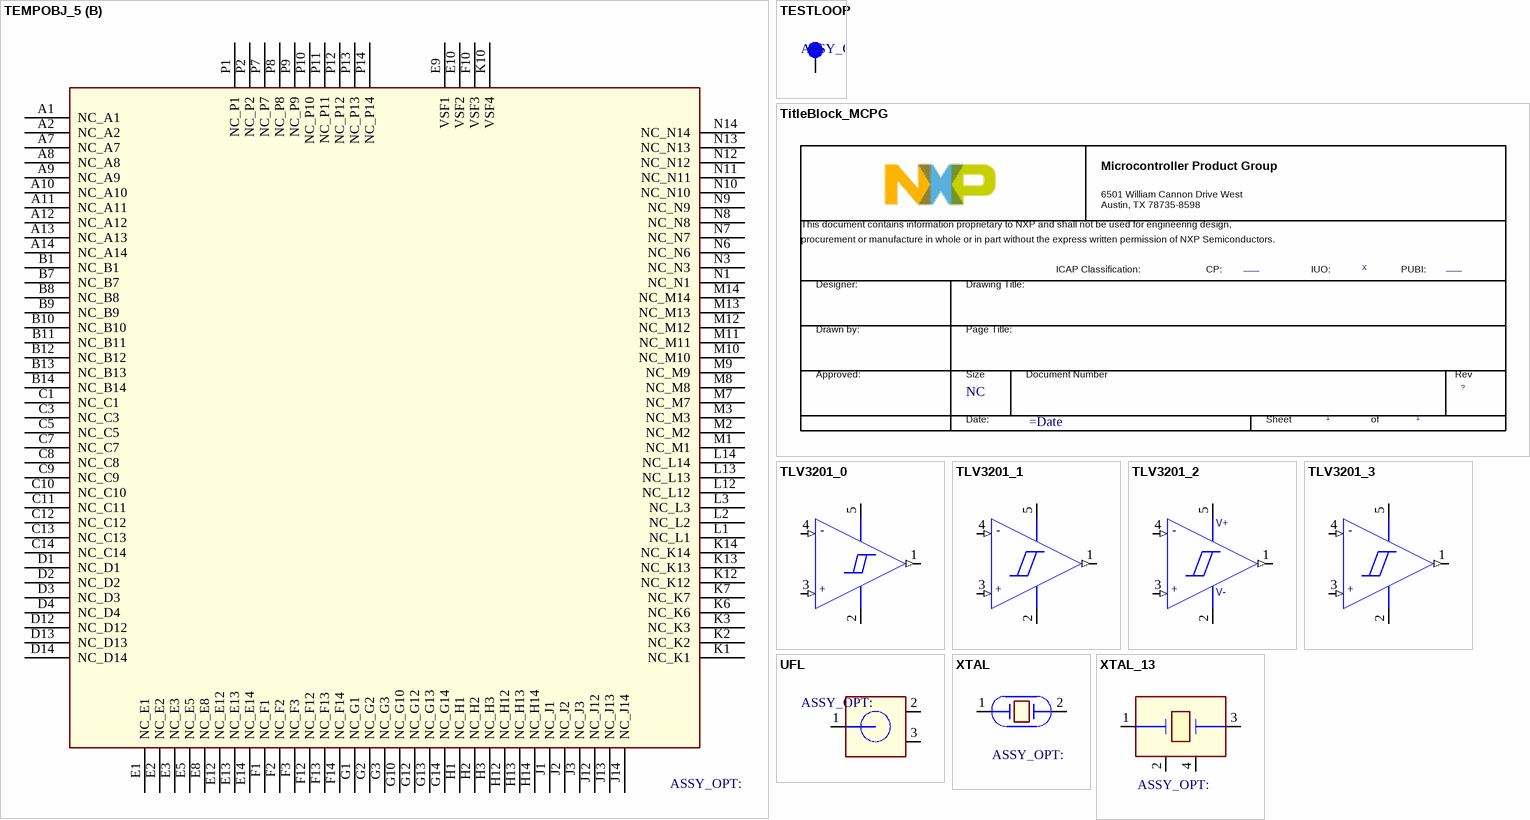
[diagram p30: symbols TEMPOBJ_5 to XTAL_13]

## TEMPOBJ_5
designator U?
CLASS: IC
part A pins: A3 DAT0 (io), A4 DAT1 (io), A5 DAT2 (io), A6 VSS1 (power), B2 DAT3 (io), B3 DAT4 (io), B4 DAT5 (io), B5 DAT6 (io), B6 DAT7 (io), C2 VDDI (power), C4 VSSQ1 (power), C6 VCCQ1 (power), E6 VCC1 (power), E7 VSS2 (power), F5 VCC2 (power), G5 VSS3 (power), H5 RCLK (out), H10 VSS4 (power), J5 VSS5 (power), J10 VCC3 (power), K5 ~{RST} (in), K8 VSS6 (power), K9 VCC4 (power), M4 VCCQ2 (power), M5 CMD (io), M6 CLK (in), N2 VSSQ2 (power), N4 VCCQ3 (power), N5 VSSQ3 (power), P3 VCCQ4 (power), P4 VSSQ4 (power), P5 VCCQ5 (power), P6 VSSQ5 (power)
part B pins: A1 NC_A1, A2 NC_A2, A7 NC_A7, A8 NC_A8, A9 NC_A9, A10 NC_A10, A11 NC_A11, A12 NC_A12, A13 NC_A13, A14 NC_A14, B1 NC_B1, B7 NC_B7, B8 NC_B8, B9 NC_B9, B10 NC_B10, B11 NC_B11, B12 NC_B12, B13 NC_B13, B14 NC_B14, C1 NC_C1, C3 NC_C3, C5 NC_C5, C7 NC_C7, C8 NC_C8, C9 NC_C9, C10 NC_C10, C11 NC_C11, C12 NC_C12, C13 NC_C13, C14 NC_C14, D1 NC_D1, D2 NC_D2, D3 NC_D3, D4 NC_D4, D12 NC_D12, D13 NC_D13, D14 NC_D14, E1 NC_E1, E2 NC_E2, E3 NC_E3, E5 NC_E5, E8 NC_E8, E9 VSF1, E10 VSF2, E12 NC_E12, E13 NC_E13, E14 NC_E14, F1 NC_F1, F2 NC_F2, F3 NC_F3, F10 VSF3, F12 NC_F12, F13 NC_F13, F14 NC_F14, G1 NC_G1, G2 NC_G2, G3 NC_G3, G10 NC_G10, G12 NC_G12, G13 NC_G13, G14 NC_G14, H1 NC_H1, H2 NC_H2, H3 NC_H3, H12 NC_H12, H13 NC_H13, H14 NC_H14, J1 NC_J1, J2 NC_J2, J3 NC_J3, J12 NC_J12, J13 NC_J13, J14 NC_J14, K1 NC_K1, K2 NC_K2, K3 NC_K3, K6 NC_K6, K7 NC_K7, K10 VSF4, K12 NC_K12, K13 NC_K13, K14 NC_K14, L1 NC_L1, L2 NC_L2, L3 NC_L3, L12 NC_L12, L13 NC_L13, L14 NC_L14, M1 NC_M1, M2 NC_M2, M3 NC_M3, M7 NC_M7, M8 NC_M8, M9 NC_M9, M10 NC_M10, M11 NC_M11, M12 NC_M12, M13 NC_M13, M14 NC_M14, N1 NC_N1, N3 NC_N3, N6 NC_N6, N7 NC_N7, N8 NC_N8, N9 NC_N9, N10 NC_N10, N11 NC_N11, N12 NC_N12, N13 NC_N13, N14 NC_N14, P1 NC_P1, P2 NC_P2, P7 NC_P7, P8 NC_P8, P9 NC_P9, P10 NC_P10, P11 NC_P11, P12 NC_P12, P13 NC_P13, P14 NC_P14
part A text: eMMC / 32GB

## TESTLOOP
designator TP?  (value not drawn)
CLASS: IO
pins: 1 Pin1

## TitleBlock_MCPG
designator *  FCP: ____  FIUO: X  Page Count: 1  Page Size: NC  (hidden comment: *)  (graphical)
PUBI: ____; Page Number: 1; RevCode: ?; Page Create Date: March  8, 1995; Page Modify Date: =Date
text: Microcontroller Product Group; 6501 William Cannon Drive West / Austin, TX 78735-8598; This document contains information proprietary to NXP and shall not be used for engineering design,; procurement or manufacture in whole or in part without the express written permission of NXP Semiconductors.; ICAP Classification:; CP:; IUO:; PUBI:; Designer:; Drawing Title:; Drawn by:; Page Title:; Approved:; Size; Document Number; Rev; Date:; Sheet; of

## TLV3201_0
designator U?
CLASS: IC
pins: 1 OUT (out), 2 GND (power), 3 IN+ (in), 4 IN- (in), 5 VCC (power)
text: -; +

## TLV3201_1
designator U?
CLASS: IC
pins: 1 OUT (out), 2 GND (power), 3 IN+ (in), 4 IN- (in), 5 VCC (power)
text: -; +

## TLV3201_2
designator U?
CLASS: IC
pins: 1 OUT (out), 2 GND (power), 3 IN+ (in), 4 IN- (in), 5 VCC (power)
text: V+; -; +; V-

## TLV3201_3
designator U?
CLASS: IC
pins: 1 OUT (out), 2 GND (power), 3 IN+ (in), 4 IN- (in), 5 VCC (power)
text: -; +

## UFL
designator J?
CLASS: IO
pins: 1 CTR, 2 GND1, 3 GND2

## XTAL
designator Y?
CLASS: IC
pins: 1, 2

## XTAL_13
designator Y?
CLASS: IC
pins: 1, 2, 3, 4